# EAGLE library part ESP32-36IO (library ESP32)
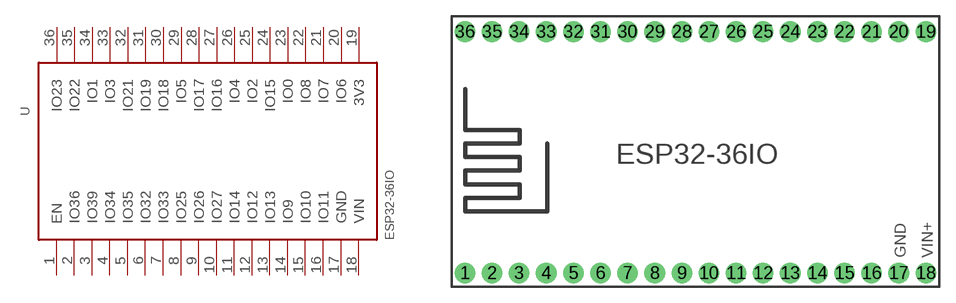
[diagram p1: symbol with the pads of ESP32-36-GPIO; footprint ESP32-36-GPIO]

Designator prefix -

## ESP32-36IO  [ESP32-36-GPIO]
1  EN
2  IO36
3  IO39
4  IO34
5  IO35
6  IO32
7  IO33
8  IO25
9  IO26
10  IO27
11  IO14
12  IO12
13  IO13
14  IO9
15  IO10
16  IO11
17  GND
18  VIN
19  3V3
20  IO6
21  IO7
22  IO8
23  IO0
24  IO15
25  IO2
26  IO4
27  IO16
28  IO17
29  IO5
30  IO18
31  IO19
32  IO21
33  IO3
34  IO1
35  IO22
36  IO23

## Footprint ESP32-36-GPIO (pad centres in mm)
drill 1 pad 1.93: 1 -22.87,-11.42; 2 -20.33,-11.42; 3 -17.79,-11.42; 4 -15.25,-11.42; 5 -12.71,-11.42; 6 -10.17,-11.42; 7 -7.63,-11.42; 8 -5.09,-11.42; 9 -2.55,-11.42; 10 -0.01,-11.42; 11 2.53,-11.42; 12 5.07,-11.42; 13 7.61,-11.42; 14 10.15,-11.42; 15 12.69,-11.42; 16 15.23,-11.42; 17 17.77,-11.42; 18 20.31,-11.42; 19 20.31,11.23; 20 17.77,11.23; 21 15.23,11.23; 22 12.69,11.23; 23 10.15,11.23; 24 7.61,11.23; 25 5.07,11.23; 26 2.53,11.23; 27 -0.01,11.23; 28 -2.55,11.23; 29 -5.09,11.23; 30 -7.63,11.23; 31 -10.17,11.23; 32 -12.71,11.23; 33 -15.25,11.23; 34 -17.79,11.23; 35 -20.33,11.23; 36 -22.87,11.23